# Altium schematic symbol library ResSMT.SchLib: 1 symbol
Pins are listed as number, name and electrical type; pins without a type are passive.

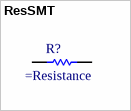
[diagram p0: symbol ResSMT]

## ResSMT
designator R?
Resistor
pins: 1, 2